# Altium schematic symbol library ISA8_Ethernet.SchLib: 15 symbols
Pins are listed as number, name and electrical type; pins without a type are passive.

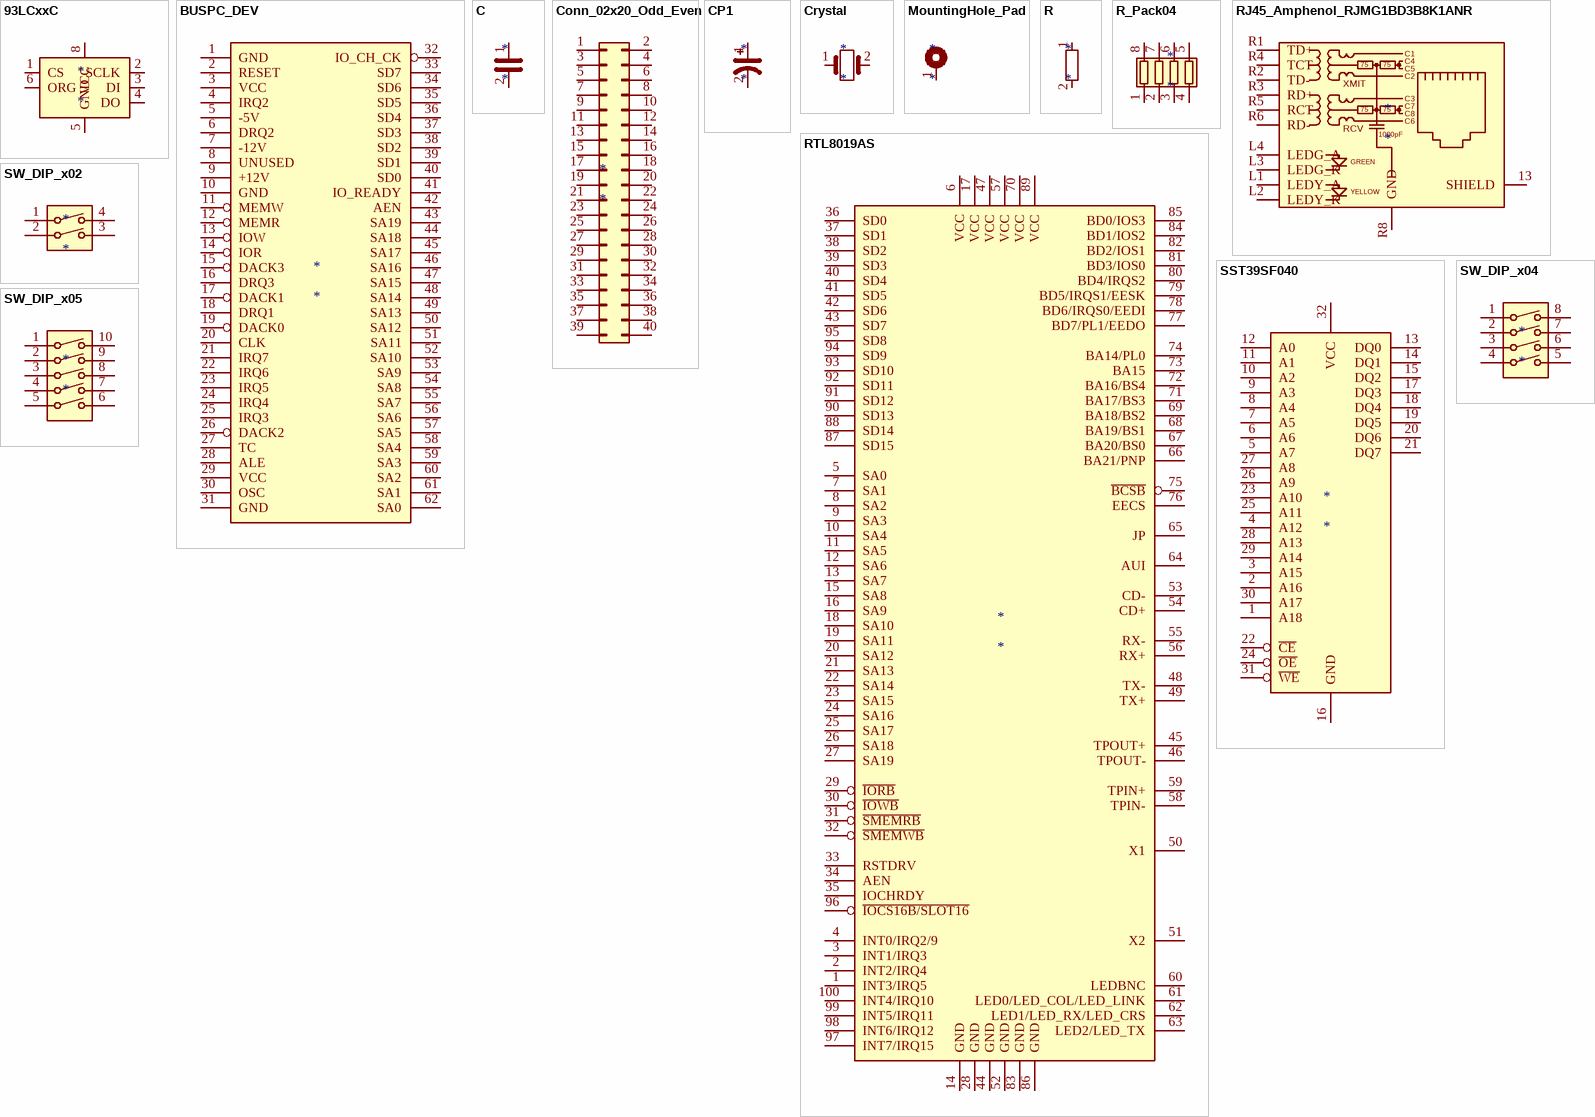
[diagram p0: symbols 93LCxxC to SW_DIP_x05]

## 93LCxxC
designator *
pins: 1 CS, 2 SCLK, 3 DI, 4 DO, 5 GND, 6 ORG, 7 NC hidden, 8 VCC

## BUSPC_DEV
designator *
pins: 1 GND, 2 RESET, 3 VCC, 4 IRQ2, 5 -5V, 6 DRQ2, 7 -12V, 8 UNUSED, 9 +12V, 10 GND, 11 MEMW, 12 MEMR, 13 IOW, 14 IOR, 15 DACK3, 16 DRQ3, 17 DACK1, 18 DRQ1, 19 DACK0, 20 CLK, 21 IRQ7, 22 IRQ6, 23 IRQ5, 24 IRQ4, 25 IRQ3, 26 DACK2, 27 TC, 28 ALE, 29 VCC, 30 OSC, 31 GND, 32 IO_CH_CK, 33 SD7, 34 SD6, 35 SD5, 36 SD4, 37 SD3, 38 SD2, 39 SD1, 40 SD0, 41 IO_READY, 42 AEN, 43 SA19, 44 SA18, 45 SA17, 46 SA16, 47 SA15, 48 SA14, 49 SA13, 50 SA12, 51 SA11, 52 SA10, 53 SA9, 54 SA8, 55 SA7, 56 SA6, 57 SA5, 58 SA4, 59 SA3, 60 SA2, 61 SA1, 62 SA0

## C
designator *
pins: 1, 2

## Conn_02x20_Odd_Even
designator *
pins: 1 Pin_1, 2 Pin_2, 3 Pin_3, 4 Pin_4, 5 Pin_5, 6 Pin_6, 7 Pin_7, 8 Pin_8, 9 Pin_9, 10 Pin_10, 11 Pin_11, 12 Pin_12, 13 Pin_13, 14 Pin_14, 15 Pin_15, 16 Pin_16, 17 Pin_17, 18 Pin_18, 19 Pin_19, 20 Pin_20, 21 Pin_21, 22 Pin_22, 23 Pin_23, 24 Pin_24, 25 Pin_25, 26 Pin_26, 27 Pin_27, 28 Pin_28, 29 Pin_29, 30 Pin_30, 31 Pin_31, 32 Pin_32, 33 Pin_33, 34 Pin_34, 35 Pin_35, 36 Pin_36, 37 Pin_37, 38 Pin_38, 39 Pin_39, 40 Pin_40

## CP1
designator *
pins: 1, 2

## Crystal
designator *
pins: 1, 2

## MountingHole_Pad
designator *
pins: 1

## R
designator *
pins: 1, 2

## R_Pack04
designator *
pins: 1 R1.1, 2 R2.1, 3 R3.1, 4 R4.1, 5 R4.2, 6 R3.2, 7 R2.2, 8 R1.2

## RJ45_Amphenol_RJMG1BD3B8K1ANR
designator *
pins: 13 SHIELD, L1 LEDY_A, L2 LEDY_K, L3 LEDG_K, L4 LEDG_A, R1 TD+, R2 TD-, R3 RD+, R4 TCT, R5 RCT, R6 RD-, R7 NC hidden, R8 GND
text: C1; 75; C4; C5; XMIT; C2; C3; C7; C8; RCV; C6; 1000pF; GREEN; YELLOW

## RTL8019AS
designator *
pins: 1 INT3/IRQ5, 2 INT2/IRQ4, 3 INT1/IRQ3, 4 INT0/IRQ2/9, 5 SA0, 6 VCC, 7 SA1, 8 SA2, 9 SA3, 10 SA4, 11 SA5, 12 SA6, 13 SA7, 14 GND, 15 SA8, 16 SA9, 17 VCC, 18 SA10, 19 SA11, 20 SA12, 21 SA13, 22 SA14, 23 SA15, 24 SA16, 25 SA17, 26 SA18, 27 SA19, 28 GND, 29 ~{IORB}, 30 ~{IOWB}, 31 ~{SMEMRB}, 32 ~{SMEMWB}, 33 RSTDRV, 34 AEN, 35 IOCHRDY, 36 SD0, 37 SD1, 38 SD2, 39 SD3, 40 SD4, 41 SD5, 42 SD6, 43 SD7, 44 GND, 45 TPOUT+, 46 TPOUT-, 47 VCC, 48 TX-, 49 TX+, 50 X1, 51 X2, 52 GND, 53 CD-, 54 CD+, 55 RX-, 56 RX+, 57 VCC, 58 TPIN-, 59 TPIN+, 60 LEDBNC, 61 LED0/LED_COL/LED_LINK, 62 LED1/LED_RX/LED_CRS, 63 LED2/LED_TX, 64 AUI, 65 JP, 66 BA21/PNP, 67 BA20/BS0, 68 BA19/BS1, 69 BA18/BS2, 70 VCC, 71 BA17/BS3, 72 BA16/BS4, 73 BA15, 74 BA14/PL0, 75 ~{BCSB}, 76 EECS, 77 BD7/PL1/EEDO, 78 BD6/IRQS0/EEDI, 79 BD5/IRQS1/EESK, 80 BD4/IRQS2, 81 BD3/IOS0, 82 BD2/IOS1, 83 GND, 84 BD1/IOS2, 85 BD0/IOS3, 86 GND, 87 SD15, 88 SD14, 89 VCC, 90 SD13, 91 SD12, 92 SD11, 93 SD10, 94 SD9, 95 SD8, 96 ~{IOCS16B/SLOT16}, 97 INT7/IRQ15, 98 INT6/IRQ12, 99 INT5/IRQ11, 100 INT4/IRQ10

## SST39SF040
designator *
pins: 1 A18, 2 A16, 3 A15, 4 A12, 5 A7, 6 A6, 7 A5, 8 A4, 9 A3, 10 A2, 11 A1, 12 A0, 13 DQ0, 14 DQ1, 15 DQ2, 16 GND, 17 DQ3, 18 DQ4, 19 DQ5, 20 DQ6, 21 DQ7, 22 ~{CE}, 23 A10, 24 ~{OE}, 25 A11, 26 A9, 27 A8, 28 A13, 29 A14, 30 A17, 31 ~{WE}, 32 VCC

## SW_DIP_x02
designator *
pins: 1, 2, 3, 4

## SW_DIP_x04
designator *
pins: 1, 2, 3, 4, 5, 6, 7, 8

## SW_DIP_x05
designator *
pins: 1, 2, 3, 4, 5, 6, 7, 8, 9, 10